# Altium footprint library ASV2550000MHZEJT.PcbLib: 1 footprints
Each footprint in its own frame and in the unit in brackets; x right, y up, seen from the top. Pads: shape width x height; smd on the part's side, far side on the other; paste and mask are expansions set on the pad; w line width, h text height; cw(c..) or ccw(c..) is an arc to the next point about the centre after c.
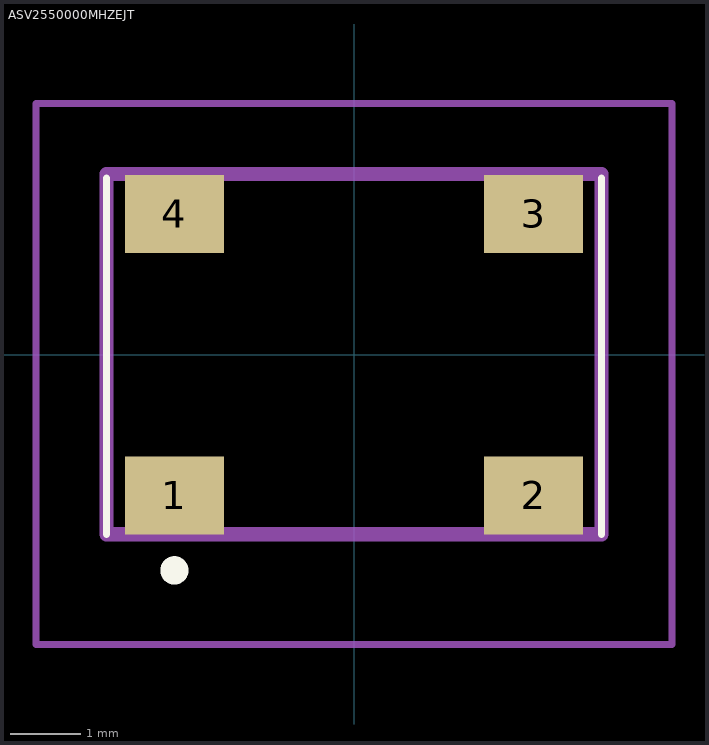
[diagram p0: the footprint, top view; thin cyan lines are the x and y axes]

## ASV2550000MHZEJT [mm]
pads (4):
  rect 1.4x1.1 smd: 1(-2.54,-1.99) 2(2.54,-1.99) 3(2.54,1.99) 4(-2.54,1.99)
Top Overlay:
  lines w0.1: -3.5,-2.54 -3.5,2.5 ; 3.5,-2.54 3.5,2.5
  lines w0.3: -2.54,-3.1 cw(c-2.54,-3.05) -2.54,-3 ; -2.54,-3.1 -2.54,-3.1 ; -2.54,-3.1 ccw(c-2.54,-3.05) -2.54,-3 ; -2.54,-3 -2.54,-3
Mechanical 15:
  lines w0.2: -3.5,-2.54 3.5,-2.54 3.5,2.554 -3.5,2.554 -3.5,-2.54
Mechanical 20:
  lines w0.1: -4.5,-4.1 4.5,-4.1 4.5,3.554 -4.5,3.554 -4.5,-4.1